# EAGLE library part ISO7241M (library texas-instruments.2)
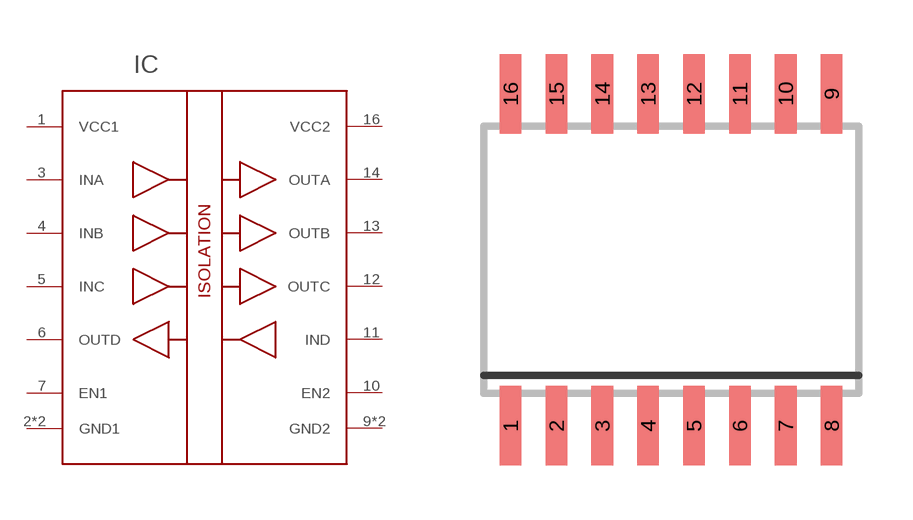
[diagram p10: symbol with the pads of SO-16DW; footprint SO-16DW]

Designator prefix IC

## ISO7241M  [SO-16DW]
1  VCC1
2  GND1
3  INA
4  INB
5  INC
6  OUTD
7  EN1
8  GND1
9  GND2
10  EN2
11  IND
12  OUTC
13  OUTB
14  OUTA
15  GND2
16  VCC2

## Footprint SO-16DW (pad centres in mm)
DW (RPDSO-G16) Source: http://focus.ti.com/lit/ds/symlink/iso1176.pdf
smd 0.6 x 2.2: 1 -4.445,-4.6; 2 -3.175,-4.6; 3 -1.905,-4.6; 4 -0.635,-4.6; 5 0.635,-4.6; 6 1.905,-4.6; 7 3.175,-4.6; 8 4.445,-4.6; 9 4.445,4.6; 10 3.175,4.6; 11 1.905,4.6; 12 0.635,4.6; 13 -0.635,4.6; 14 -1.905,4.6; 15 -3.175,4.6; 16 -4.445,4.6